# Altium schematic symbol library BLM18SG121TN1D.SchLib: 1 symbol
Pins are listed as number, name and electrical type; pins without a type are passive.

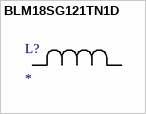
[diagram p0: symbol BLM18SG121TN1D]

## BLM18SG121TN1D
designator L?
No Description Available; Mfr_Name: Murata
footprint IND_BLM18_0603_MUR
pins: 1, 2